# Altium footprint library 430182043816.PcbLib: 1 footprints
Each footprint in its own frame and in the unit in brackets; x right, y up, seen from the top. Pads: shape width x height; smd on the part's side, far side on the other; paste and mask are expansions set on the pad; w line width, h text height; cw(c..) or ccw(c..) is an arc to the next point about the centre after c.
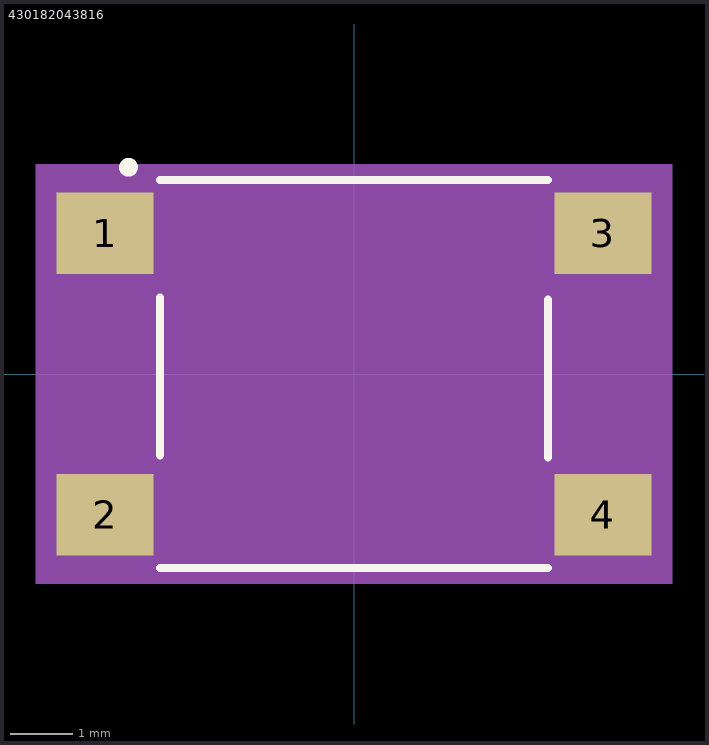
[diagram p0: the footprint, top view; thin cyan lines are the x and y axes]

## 430182043816 [mm]
pads (4):
  rect 1.55x1.3 smd: 1(-3.975,2.25) 2(-3.975,-2.25) 3(3.975,2.25) 4(3.975,-2.25)
Top Overlay:
  circle w0.2: c-3.6,3.3 r0.05
  lines w0.127: -3.1,-3.1 3.1,-3.1 ; -3.1,-1.3 -3.1,1.22 ; -3.1,3.1 3.1,3.1 ; 3.1,-1.33 3.1,1.19
Mechanical 1:
  lines w0.127: -3.1,-3.1 -3.1,3.1 ; 3.1,-3.1 3.1,3.1
  text "2" at -2.24,-2.645 h1.88
  text "3" at 1.963,1.357 h1.88
  text "4" at 1.807,-2.593 h1.88
  text "1" at -2.443,1.257 h1.88
Mechanical 4:
  region: -5.08,3.35 5.08,3.35 5.08,-3.35 -5.08,-3.35